# Altium footprint library LM7805.PcbLib: 3 footprints
Each footprint in its own frame and in the unit in brackets; x right, y up, seen from the top. Pads: shape width x height; smd on the part's side, far side on the other; paste and mask are expansions set on the pad; w line width, h text height; cw(c..) or ccw(c..) is an arc to the next point about the centre after c.
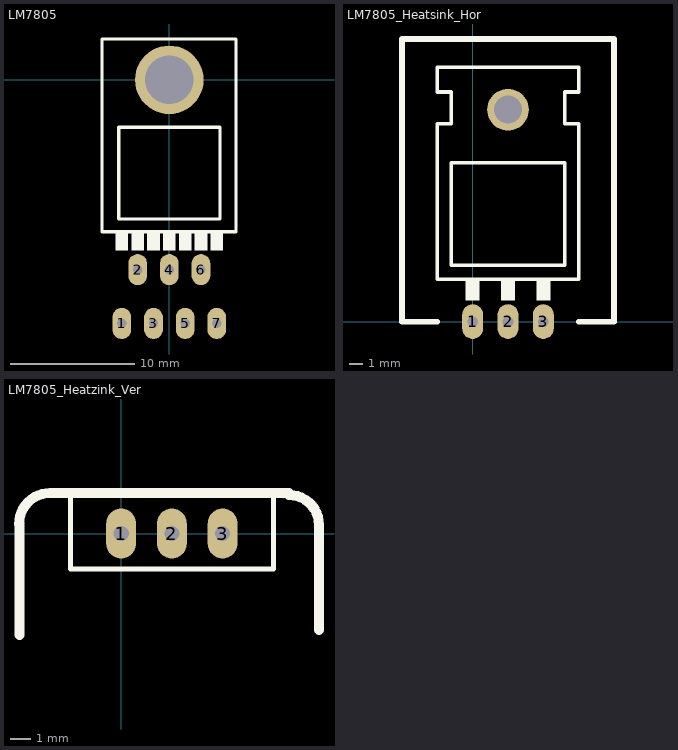
[diagram p0: the footprints below, top view; thin cyan lines are the x and y axes]

## LM7805 [mm]
pads (8):
  oval 1.5x2.5 hole 0.762: 1(-3.81,-19.558) 2(-2.54,-15.24) 3(-1.27,-19.558) 4(0,-15.24) 5(1.27,-19.558) 6(2.54,-15.24) 7(3.81,-19.558)
  round 5.5 hole 3.89: ""(0,0)
Top Overlay:
  circle w0.254: c0,0 r2.032
  rectangle: 3.302,-13.716 4.318,-12.192
  rectangle: 0.762,-13.716 1.778,-12.192
  rectangle: -4.318,-13.716 -3.302,-12.192
  rectangle: -1.778,-13.716 -0.762,-12.192
  rectangle: -3.048,-13.716 -2.032,-12.192
  rectangle: -0.508,-13.716 0.508,-12.192
  rectangle: 2.032,-13.716 3.048,-12.192
  lines w0.254: -5.41,0.508 -5.41,-1.346 -5.41,-4.032 -5.41,-9.455 -5.41,-12.192 5.359,-12.192 5.359,-1.702 5.359,0.991 5.359,3.277 -5.41,3.277 -5.41,1.6 -5.41,0.521 ; -4.064,-11.176 4.064,-11.176 4.064,-3.81 -4.064,-3.81 -4.064,-11.176

## LM7805_Heatsink_Hor [mm]
pads (4):
  oval 1.5x2.5 hole 0.762: 1(0,0) 2(2.54,0) 3(5.08,0)
  round 3 hole 2: ""(2.54,15.24)
Top Overlay:
  rectangle: 4.572,1.524 5.588,3.048
  rectangle: 2.032,1.524 3.048,3.048
  rectangle: -0.508,1.524 0.508,3.048
  lines w0.254: -2.54,3.048 7.62,3.048 7.62,14.224 6.604,14.224 6.604,16.51 7.62,16.51 7.62,18.288 -2.54,18.288 -2.54,16.51 -1.524,16.51 -1.524,14.224 -2.54,14.224 -2.54,3.048 ; -1.524,4.064 -1.524,11.43 6.604,11.43 6.604,4.064 -1.524,4.064
  lines w0.4: -2.54,0 -5.08,0 -5.08,20.32 10.16,20.32 10.16,0 7.62,0

## LM7805_Heatzink_Ver [mm]
pads (3):
  oval 1.5x2.5 hole 0.762: 1(0,0) 2(2.54,0) 3(5.08,0)
Top Overlay:
  lines w0.254: -2.54,-1.778 7.62,-1.778 7.62,2.032 -2.54,2.032 -2.54,-1.778
  lines w0.5: -5.115,0.473 cw(c-3.556,0.473) -3.556,2.032 ; -5.08,-5.08 -5.08,0.508 ; -3.42,2.032 8.414,2.032 ; 8.414,1.93 cw(c8.414,0.437) 9.906,0.437 9.906,-4.826